# EAGLE library part PROG (library custom_library)
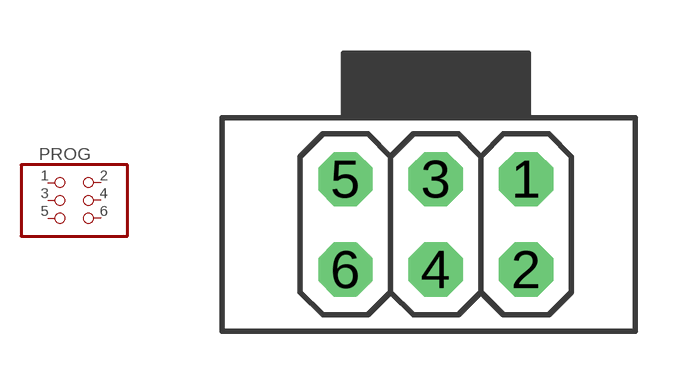
[diagram p6: symbol with the pads of PINH-2X3-2.54; footprint PINH-2X3-2.54]

Designator prefix PROG

## PROGSTM32  [PINH-2X3-2.54]
1  1  pas
2  2  pas
3  3  pas
4  4  pas
5  5  pas
6  6  pas

## Footprint PINH-2X3-2.54 (pad centres in mm)
drill 1.016 octagon: 1 2.54,1.27; 2 2.54,-1.27; 3 0,1.27; 4 0,-1.27; 5 -2.54,1.27; 6 -2.54,-1.27